# EAGLE library part 74HC4024D (library NXP_By_element14_Batch_1)
7-stage binary ripple counter
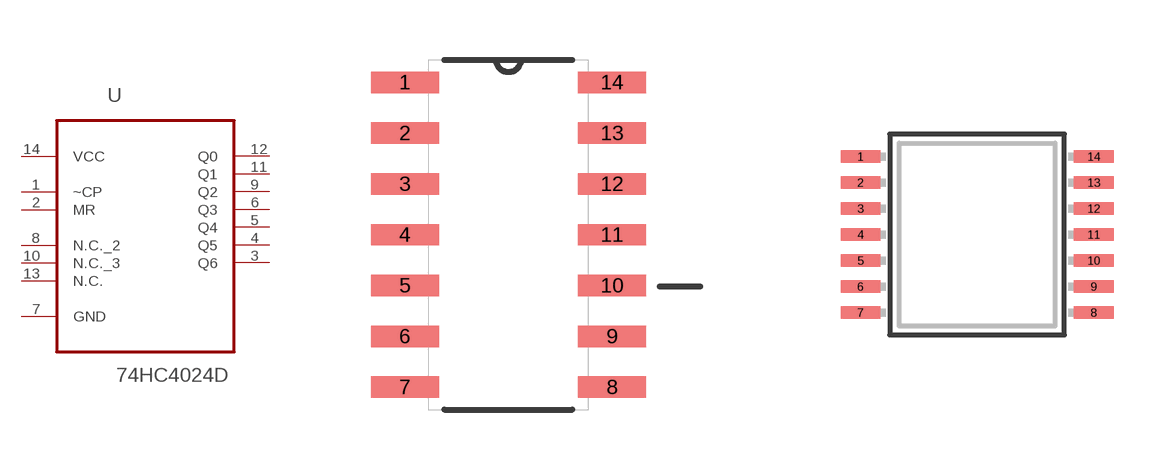
[diagram p88: symbol with the pads of SOIC127P600X175-14N; footprints SOIC127P600X175-14N, TSSOP14]

Designator prefix U

## 74HC4024D (MPN: 74HC4024D; OC_FARNELL: 1631669; OC_NEWARK: 03P2765; P1I: o; PACKAGE: SOIC-14; SUPPLIER: NXP)  [SOIC127P600X175-14N]
1  ~CP  in
2  MR  in
3  Q6  out
4  Q5  out
5  Q4  out
6  Q3  out
7  GND  pas
8  N.C._2  nc
9  Q2  out
10  N.C._3  nc
11  Q1  out
12  Q0  out
13  N.C.  nc
14  VCC  pwr

## 74HC4024D74HC4024PWR  [TSSOP14]
1  ~CP  in
2  MR  in
3  Q6  out
4  Q5  out
5  Q4  out
6  Q3  out
7  GND  pas
8  N.C.  nc
9  Q2  out
10  N.C._2  nc
11  Q1  out
12  Q0  out
13  N.C._3  nc
14  VCC  pwr

## Footprint SOIC127P600X175-14N (pad centres in mm)
smd 1.702 x 0.533: 1 -2.591,3.81; 2 -2.591,2.54; 3 -2.591,1.27; 4 -2.591,0; 5 -2.591,-1.27; 6 -2.591,-2.54; 7 -2.591,-3.81; 8 2.591,-3.81; 9 2.591,-2.54; 10 2.591,-1.27; 11 2.591,0; 12 2.591,1.27; 13 2.591,2.54; 14 2.591,3.81

## Footprint TSSOP14 (pad centres in mm)
TSSOP-14 14pin Body:4.5x5mm 0.65mm pitch
smd 0.991 x 0.305: 1 -2.918,1.95; 2 -2.918,1.3; 3 -2.918,0.65; 4 -2.918,0; 5 -2.918,-0.65; 6 -2.918,-1.3; 7 -2.918,-1.95; 8 2.918,-1.95; 9 2.918,-1.3; 10 2.918,-0.65; 11 2.918,0; 12 2.918,0.65; 13 2.918,1.3; 14 2.918,1.95